# Altium footprint library 单灯控制器.PcbLib: 58 footprints (part 2 of 4)
Each footprint in its own frame and in the unit in brackets; x right, y up, seen from the top. Pads: shape width x height; smd on the part's side, far side on the other; paste and mask are expansions set on the pad; w line width, h text height; cw(c..) or ccw(c..) is an arc to the next point about the centre after c.
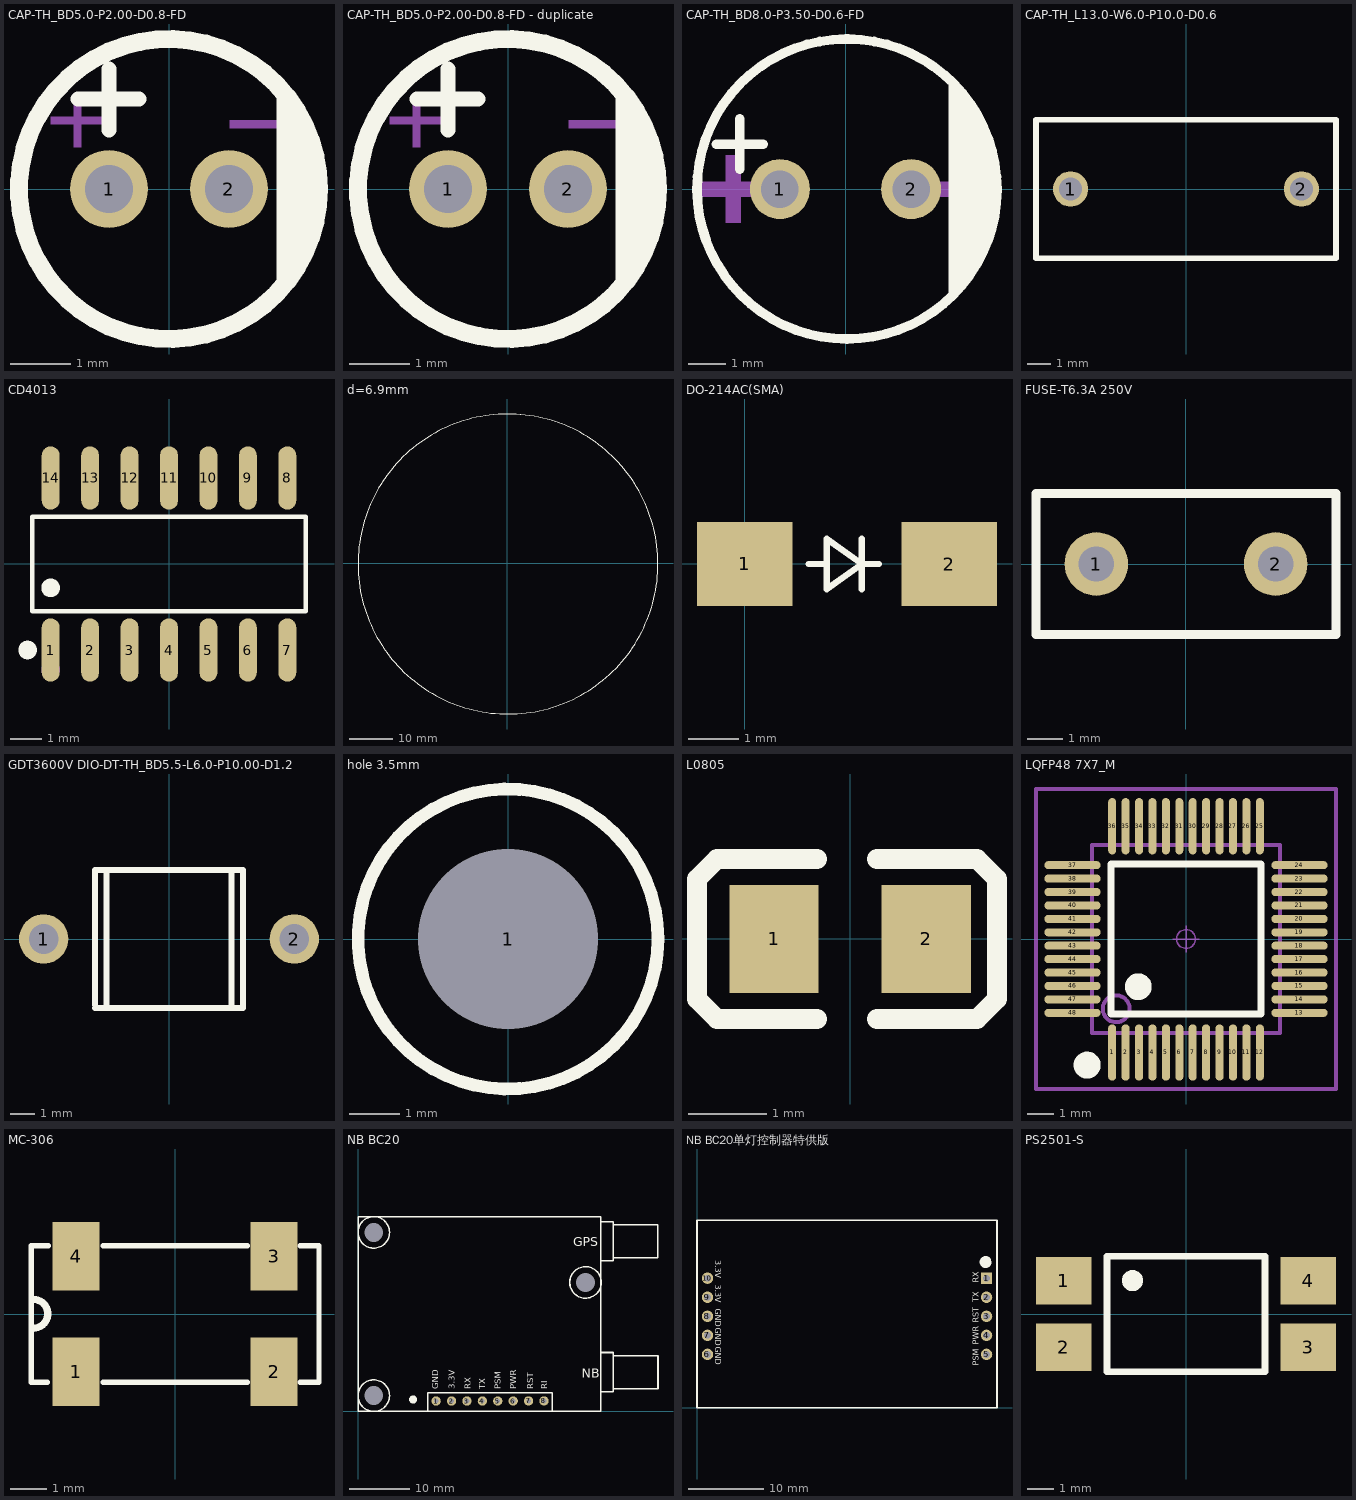
[diagram p1: the footprints below, top view; thin cyan lines are the x and y axes]

## CAP-TH_BD5.0-P2.00-D0.8-FD [mm] "10uf 25v"
pads (2):
  round 1.3 hole 0.8: 1(-1,0) 2(1,0)
Top Overlay:
  circle w0.3: c0,0 r2.5
  region: 1.794,1.651 1.961,1.491 2.225,1.111 2.407,0.685 2.5,0.231 2.5,-0.231 2.407,-0.685 2.225,-1.111 1.961,-1.491 1.794,-1.651
  lines w0.254: -1.516,1.5 -0.5,1.5 ; -1,0.984 -1,2
Mechanical 15:
  region: -1.969,1.206 -1.08,1.206 -1.08,1.079 -1.969,1.079
  region: -1.588,0.699 -1.588,1.587 -1.461,1.587 -1.46,0.699
  region: 1.016,1.143 1.905,1.143 1.905,1.016 1.016,1.016

## CAP-TH_BD5.0-P2.00-D0.8-FD - duplicate [mm] "100uf 10v 电解电容"
pads (2):
  round 1.3 hole 0.8: 1(-1,0) 2(1,0)
Top Overlay:
  circle w0.3: c0,0 r2.5
  region: 1.794,1.651 1.961,1.491 2.225,1.111 2.407,0.685 2.5,0.231 2.5,-0.231 2.407,-0.685 2.225,-1.111 1.961,-1.491 1.794,-1.651
  lines w0.254: -1.516,1.5 -0.5,1.5 ; -1,0.984 -1,2
Mechanical 15:
  region: 1.016,1.143 1.905,1.143 1.905,1.016 1.016,1.016
  region: -1.588,0.699 -1.588,1.587 -1.461,1.587 -1.46,0.699
  region: -1.969,1.206 -1.08,1.206 -1.08,1.079 -1.969,1.079

## CAP-TH_BD8.0-P3.50-D0.6-FD [mm] "470uf 10V"
pads (2):
  round 1.6 hole 1: 1(-1.75,0) 2(1.75,0)
Top Overlay:
  region: 2.75,-3 2.941,-2.8 3.268,-2.355 3.536,-1.872 3.741,-1.359 3.88,-0.824 3.95,-0.276 3.95,0.276 3.88,0.824 3.741,1.359 3.536,1.872 3.268,2.355 2.941,2.8 2.75,3
  lines w0.254: -3.445,1.2 -2.2,1.2 ; -2.822,0.527 -2.822,1.873 ; 0.003,4 ccw(c0.038,0.001) 0.074,4
Mechanical 15:
  region: 3.5,0.2 2.1,0.2 2.1,-0.2 3.7,-0.2 3.9,-0.2 3.9,0.2
  region: -2.5,0.2 -3.9,0.2 -3.9,-0.2 -2.3,-0.2 -2.1,-0.2 -2.1,0.2
  region: -3.2,0.5 -3.2,-0.9 -2.8,-0.9 -2.8,0.7 -2.8,0.9 -3.2,0.9

## CAP-TH_L13.0-W6.0-P10.0-D0.6 [mil] "0.1UF安规电容X2"
pads (2):
  round 60 hole 39.37: 1(-196.85,0) 2(196.85,0)
Top Overlay:
  lines w10: -255.91,-118.11 -255.91,118.11 255.91,118.11 255.91,-118.11 -255.91,-118.11

## CD4013 [mm] "双路D触发器"
pads (14):
  oval 0.574x2.038 smd: 1(-3.81,-2.769) 2(-2.54,-2.769) 3(-1.27,-2.769) 4(0,-2.769) 5(1.27,-2.769) 6(2.54,-2.769) 7(3.81,-2.769) 8(3.81,2.769) 9(2.54,2.769) 10(1.27,2.769) 11(0,2.769) 12(-1.27,2.769) 13(-2.54,2.769) 14(-3.81,2.769)
Top Overlay:
  circle w0.3: c-4.549,-2.769 r0.15
  circle w0.3: c-3.81,-0.769 r0.15
  lines w0.152: -4.401,-1.521 4.401,-1.521 4.401,1.521 -4.401,1.521 -4.401,-1.521
Mechanical 15:
  circle w0.3: c-3.81,-3.4 r0.15

## d=6.9mm [mm]
Top Overlay:
  lines w0.254: 2.992,34.254 ccw(c0.127,-0.127) 3.108,34.244

## DO-214AC(SMA) [mm]
pads (2):
  rect 1.905x1.67 smd: 1(0,0) 2(4.064,0)
Top Overlay:
  lines w0.127: 1.27,0 1.627,0 ; 2.327,-0.5 2.327,0.5 ; 2.667,0 2.327,0 ; 2.327,0 1.627,0.5 1.627,-0.5 2.327,0

## FUSE-T6.3A 250V [mm]
pads (2):
  round 1.8 hole 1: 1(-2.54,0) 2(2.54,0)
Top Overlay:
  lines w0.254: -4.25,-2 -4.25,2 4.25,2 4.25,-2 -4.25,-2

## GDT3600V DIO-DT-TH_BD5.5-L6.0-P10.00-D1.2 [mm] "气体放电管"
pads (2):
  round 2 hole 1.2: 1(-5.08,0) 2(5.08,0)
Top Overlay:
  lines w0.254: -3,-2.8 3,-2.8 3,2.8 -3,2.8 -3,-2.667 ; -2.531,-2.8 -2.531,2.8 ; 2.531,-2.8 2.531,2.8

## hole 3.5mm [mil] "3.5mm限位孔"
pads (1):
  round 60 hole 141.73: 1(0,0)
Top Overlay:
  circle w10: c0,0 r118.11

## L0805 [mm]
pads (2):
  rect 1.133x1.377 smd: 1(-0.966,0) 2(0.966,0)
Top Overlay:
  lines w0.254: -0.421,-1.016 -1.691,-1.016 -1.945,-0.762 -1.945,-0.635 -1.945,0.762 -1.691,1.016 -1.564,1.016 -0.421,1.016 ; 0.341,-1.016 1.484,-1.016 1.611,-1.016 1.865,-0.762 1.865,0.635 1.865,0.762 1.611,1.016 0.341,1.016
Top Paste:
  region: 0.36,-0.22 0.36,0.22 0.745,0.688 1.433,0.688 1.533,0.588 1.533,-0.589 1.433,-0.689 0.745,-0.689
  region: -0.36,-0.22 -0.36,0.22 -0.745,0.688 -1.433,0.688 -1.533,0.588 -1.533,-0.589 -1.433,-0.689 -0.745,-0.689

## LQFP48 7X7_M [mm] "48脚，体宽7x7mm，脚距0.5mm      淘宝ID:黄晶宝石"
height 1.6
pads (48):
  oval 0.3x2.1 smd: 1(-2.75,-4.227) 2(-2.25,-4.227) 3(-1.75,-4.227) 4(-1.25,-4.227) 5(-0.75,-4.227) 6(-0.25,-4.227) 7(0.25,-4.227) 8(0.75,-4.227) 9(1.25,-4.227) 10(1.75,-4.227) 11(2.25,-4.227) 12(2.75,-4.227) 25(2.75,4.202) 26(2.25,4.202) 27(1.75,4.202) 28(1.25,4.202) 29(0.75,4.202) 30(0.25,4.202) 31(-0.25,4.202) 32(-0.75,4.202) 33(-1.25,4.202) 34(-1.75,4.202) 35(-2.25,4.202) 36(-2.75,4.202)
  oval 2.1x0.3 smd: 13(4.227,-2.75) 14(4.227,-2.25) 15(4.227,-1.75) 16(4.227,-1.25) 17(4.227,-0.75) 18(4.227,-0.25) 19(4.227,0.25) 20(4.227,0.75) 21(4.227,1.25) 22(4.227,1.75) 23(4.227,2.25) 24(4.227,2.75) 37(-4.227,2.75) 38(-4.227,2.25) 39(-4.227,1.75) 40(-4.227,1.25) 41(-4.227,0.75) 42(-4.227,0.25) 43(-4.227,-0.25) 44(-4.227,-0.75) 45(-4.227,-1.25) 46(-4.227,-1.75) 47(-4.227,-2.25) 48(-4.227,-2.75)
Top Overlay:
  circle w0.5: c-1.778,-1.778 r0.25
  circle w0.508: c-3.683,-4.699 r0.25
  lines w0.254: -2.794,-2.794 2.794,-2.794 2.794,2.794 -2.794,2.794 -2.794,-2.794
Mechanical 13:
  circle w0.15: c-2.6,-2.6 r0.5
  lines w0.15: -3.5,-3.5 -3.5,3.5 3.5,3.5 3.5,-3.5 -3.5,-3.5
Mechanical 15:
  circle w0.05: c0,0 r0.35
  lines w0.05: -0.5,0 0.5,0 ; 0,-0.5 0,0.5
  lines w0.15: -5.588,-5.588 -5.588,5.588 5.588,5.588 5.588,-5.588 -5.588,-5.588
3D body "LQFP48-7x7.STEP": height 1.45, standoff 0, extent -4.503,-4.503 4.503,4.503

## MC-306 [mm]
height 1.6
pads (4):
  rect 1.3x1.9 smd: 1(-2.75,-1.6) 2(2.75,-1.6) 3(2.75,1.6) 4(-2.75,1.6)
Top Overlay:
  lines w0.152: -3.556,-1.9 -4,-1.9 -4,1.9 -3.531,1.9 ; -2,-1.9 2,-1.9 ; -2,1.9 2,1.9 ; 3.48,-1.9 4,-1.9 4,1.9 3.48,1.9
  lines w0.2: -3.937,-0.394 ccw(c-3.937,0.006) -3.937,0.406

## NB BC20 [mil]
pads (11):
  round 60 hole 30: 1(505,65) 2(605,65) 3(705,65) 4(805,65) 5(905,65) 6(1005,65) 7(1105,65.56) 8(1205,65.56)
  round 0 hole 122.05: 10(100,100) 10(100,1160) 10(1475,835)
Top Overlay:
  circle w10: c100,100 r102.36
  circle w10: c100,1160 r102.36
  circle w10: c1475,835 r102.36
  circle w30: c355,75 r11.18
  lines w10: 450,0 450,120 1260,120 1260,0 ; 1574.8,125 1653.54,125 ; 1574.8,1230 1655,1230 1655,975 1575,975 ; 1575,380 1653.74,380 ; 1655,125 1655,380 ; 1655,145 1945,145 ; 1655,360 1945.2,360 1945.2,145.2 ; 1655,995 1944.8,995 1944.8,1210 1655,1210 ; 0,0 0,1259.84 1574.8,1259.84 1574.8,0 0,0
  text "NB" at 1450,215 h60
  text "GPS" at 1395,1070 h60
  text "GND" at 520,140 h40
  text "3.3V" at 625,140 h40
  text "RX" at 730,140 h40
  text "TX" at 825,140 h40
  text "RST" at 1135,140 h40
  text "PWR" at 1025,140 h40
  text "PSM" at 925,140 h40
  text "RI" at 1225,140 h40

## NB BC20单灯控制器特供版 [mil]
pads (10):
  rect 59.06x59.06 hole 35.43: 1(1519.8,680)
  round 60 hole 35.43: 2(1520,580) 3(1520,480) 4(1520,380) 5(1520,280) 6(55,280) 7(55,380) 8(55,480) 9(55,580) 10(55,680)
Top Overlay:
  lines w10: 0,0 1574.8,0 1574.8,984.25 0,984.25 0,0
  lines w39.37: 1523.94,771.71 ccw(c1515,765) 1526.18,765
  text "RX" at 1479.8,655 h30
  text "TX" at 1479.8,555 h30
  text "RST" at 1479.8,445 h30
  text "PWR" at 1479.8,330 h30
  text "PSM" at 1479.8,220 h30
  text "3.3V" at 95,775 h30
  text "3.3V" at 95,645 h30
  text "GND" at 95,520 h30
  text "GND" at 94.8,420 h30
  text "GND" at 94.8,320 h30

## PS2501-S [mm]
pads (4):
  rect 2.1x1.8 smd: 1(-4.65,1.27) 2(-4.65,-1.27) 3(4.65,-1.27) 4(4.65,1.27)
Top Overlay:
  lines w0.254: -3,-2.2 -3,2.2 3,2.2 3,-2.2 -3,-2.2
  lines w0.4: -2.033,1.47 ccw(c-2.032,1.27) -2.031,1.47